# EAGLE library part 3X7SEG (library 3x7segCC)
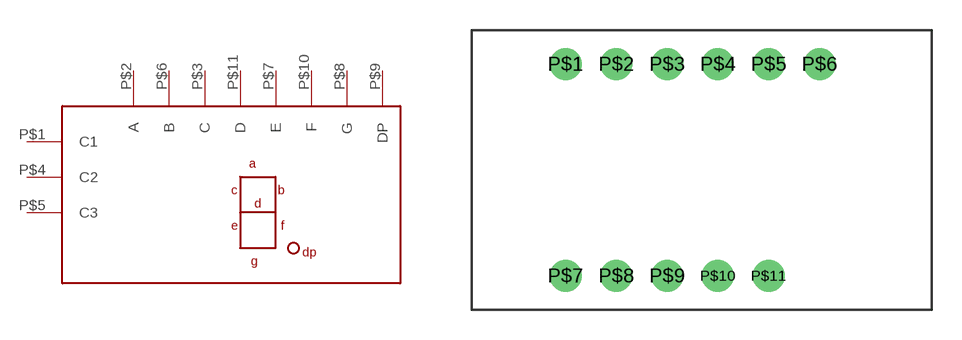
[diagram p0: symbol with the pads of 3X7SEG; footprint 3X7SEG]

Designator prefix -

## 3X7SEG  [3X7SEG]
P$1  C1
P$2  A
P$3  C
P$4  C2
P$5  C3
P$6  B
P$7  E
P$8  G
P$9  DP
P$10  F
P$11  D

## Footprint 3X7SEG (pad centres in mm)
drill 0.9 pad 1.6: P$1 -6.8,5.3; P$2 -4.26,5.3; P$3 -1.72,5.3; P$4 0.82,5.3; P$5 3.36,5.3; P$6 5.9,5.3; P$7 -6.8,-5.3; P$8 -4.26,-5.3; P$9 -1.72,-5.3; P$10 0.82,-5.3; P$11 3.36,-5.3